# EAGLE library part EDGE50 (library rpi64)
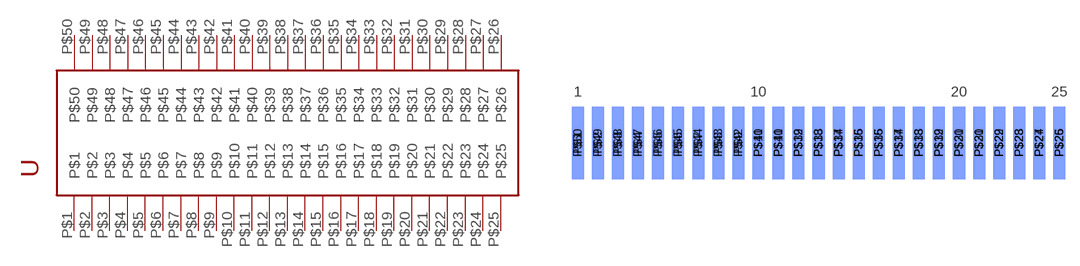
[diagram p2: symbol with the pads of EDGE50; footprint EDGE50]

Designator prefix -

## EDGE50  [EDGE50]
P$1  P$1
P$2  P$2
P$3  P$3
P$4  P$4
P$5  P$5
P$6  P$6
P$7  P$7
P$8  P$8
P$9  P$9
P$10  P$10
P$11  P$11
P$12  P$12
P$13  P$13
P$14  P$14
P$15  P$15
P$16  P$16
P$17  P$17
P$18  P$18
P$19  P$19
P$20  P$20
P$21  P$21
P$22  P$22
P$23  P$23
P$24  P$24
P$25  P$25
P$26  P$26
P$27  P$27
P$28  P$28
P$29  P$29
P$30  P$30
P$31  P$31
P$32  P$32
P$33  P$33
P$34  P$34
P$35  P$35
P$36  P$36
P$37  P$37
P$38  P$38
P$39  P$39
P$40  P$40
P$41  P$41
P$42  P$42
P$43  P$43
P$44  P$44
P$45  P$45
P$46  P$46
P$47  P$47
P$48  P$48
P$49  P$49
P$50  P$50

## Footprint EDGE50 (pad centres in mm)
smd 1.5 x 9: P$1 0,4.754; P$2 2.5,4.754; P$3 5,4.754; P$4 7.5,4.754; P$5 10,4.754; P$6 12.5,4.754; P$7 15,4.754; P$8 17.5,4.754; P$9 20,4.754; P$10 22.5,4.754; P$11 25,4.754; P$12 27.5,4.754; P$13 30,4.754; P$14 32.5,4.754; P$15 35,4.754; P$16 37.5,4.754; P$17 40,4.754; P$18 42.5,4.754; P$19 45,4.754; P$20 47.5,4.754; P$21 50,4.754; P$22 52.5,4.754; P$23 55,4.754; P$24 57.5,4.754; P$25 60,4.754
smd 1.5 x 9 bottom: P$26 60,4.754; P$27 57.5,4.754; P$28 55,4.754; P$29 52.5,4.754; P$30 50,4.754; P$31 47.5,4.754; P$32 45,4.754; P$33 42.5,4.754; P$34 40,4.754; P$35 37.5,4.754; P$36 35,4.754; P$37 32.5,4.754; P$38 30,4.754; P$39 27.5,4.754; P$40 25,4.754; P$41 22.5,4.754; P$42 20,4.754; P$43 17.5,4.754; P$44 15,4.754; P$45 12.5,4.754; P$46 10,4.754; P$47 7.5,4.754; P$48 5,4.754; P$49 2.5,4.754; P$50 0,4.754